# EAGLE library part C1216_CONDOR (library Trimble)
Condor C1216 GPS Receiver Module SMD GPS Receiver module, made by Trimble Navigation Ltd, Embedded Systems Group <http://www.trimble.com/embeddedsystems/> Partnumber: 68676-10 Datasheet, User Manual and Tools <http://www.trimble.com/embeddedsystems/condor-gps-module.aspx> Created by Trimble Navigation Ltd, Author: Christian Voit <mailto:christian_voit@trimble.com?subject=Trimble Eagle Library>
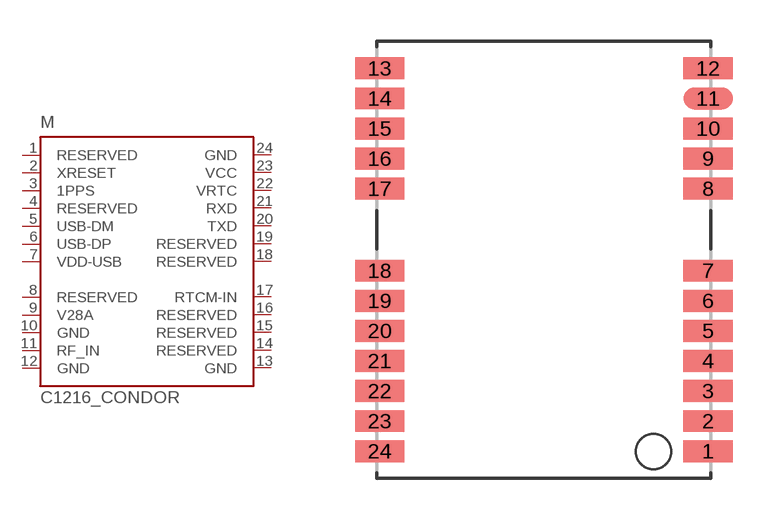
[diagram p1: symbol with the pads of 1216; footprint 1216]

Designator prefix M

## C1216_CONDOR-SMD  [1216]
1  RESERVED  nc
2  XRESET  in
3  1PPS  out
4  RESERVED  nc
5  USB-DM
6  USB-DP
7  VDD-USB  in
8  RESERVED  nc
9  V28A  out
10  GND  pwr
11  RF_IN  in
12  GND  pwr
13  GND  pwr
14  RESERVED  nc
15  RESERVED  nc
16  RESERVED  nc
17  RTCM-IN  in
18  RESERVED  nc
19  RESERVED  nc
20  TXD  out
21  RXD  in
22  VRTC  in
23  VCC  pwr
24  GND  pwr

## Footprint 1216 (pad centres in mm)
Package 1216, 24-pads Size: 12 mm x 16 mm x 1.8 mm 24 SMD edge-castellation pads, 1.1 mm pad-pitch by Trimble Navigation Ltd, Embedded Systems Group <http://www.trimble.com/embeddedsystems/> Used for: Condor C1216 Created by Trimble Navigation Ltd, Author: Christian Voit <mailto:christian_voit@trimble.com?subject=Trimble Eagle Library>
smd 1.8 x 0.8: 1 6,-8.1; 2 6,-7; 3 6,-5.9; 4 6,-4.8; 5 6,-3.7; 6 6,-2.6; 7 6,-1.5; 8 6,1.5; 9 6,2.6; 10 6,3.7; 11 6,4.8; 12 6,5.9; 13 -6,5.9; 14 -6,4.8; 15 -6,3.7; 16 -6,2.6; 17 -6,1.5; 18 -6,-1.5; 19 -6,-2.6; 20 -6,-3.7; 21 -6,-4.8; 22 -6,-5.9; 23 -6,-7; 24 -6,-8.1